# Altium schematic symbol library Pogo Pins.SchLib: 2 symbols
Pins are listed as number, name and electrical type; pins without a type are passive.

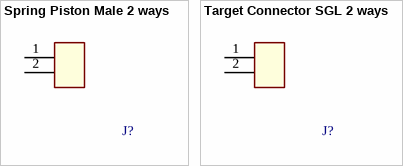
[diagram p0: symbols Spring Piston Male 2 ways to Target Connector SGL 2 ways]

## Spring Piston Male 2 ways
designator J?, comment Spring Piston Male  (value not drawn)
2 Position Spring Piston Connector Through Hole 0.100' pitch; Manufacturer 1: Mill-Max Manufacturing Corp.; Manufacturer 1 PN: 825-22-064-10-001101; Notes: Attention to amount to buy. It sells in 64pos/unit; ComponentLink1Description: Datasheet; ComponentLink1URL: https://www.mill-max.com/assets/pdfs/014.pdf; Digikey PN: ED90382-ND; Mouser PN: 575-82522064100011
footprint Spring Piston Male 2 ways (2 Position Spring Piston Male Connector Through Hole)
pins: 1, 2

## Target Connector SGL 2 ways
designator J?, comment Target Connector SGL  (value not drawn)
64 Position Spring Mating Target Connector Through Hole, Right Angle; Manufacturer 1: Mill-Max Manufacturing Corp.; Manufacturer 1 PN: 399-10-164-10-008000; Notes: Attention to amount to buy. It sells in 64pos/unit; ComponentLink1Description: Datasheet; ComponentLink1URL: https://www.mill-max.com/assets/pdfs/014.pdf; Digikey PN: ED8364-64-ND; Mouser PN: 575-39910164
footprint Target Connector SGL 2 ways (64 Position Spring Mating Target Connector Through Hole, Right Angle)
pins: 1, 2